# Altium footprint library Components.PcbLib: 19 footprints (part 1 of 2)
Each footprint in its own frame and in the unit in brackets; x right, y up, seen from the top. Pads: shape width x height; smd on the part's side, far side on the other; paste and mask are expansions set on the pad; w line width, h text height; cw(c..) or ccw(c..) is an arc to the next point about the centre after c.
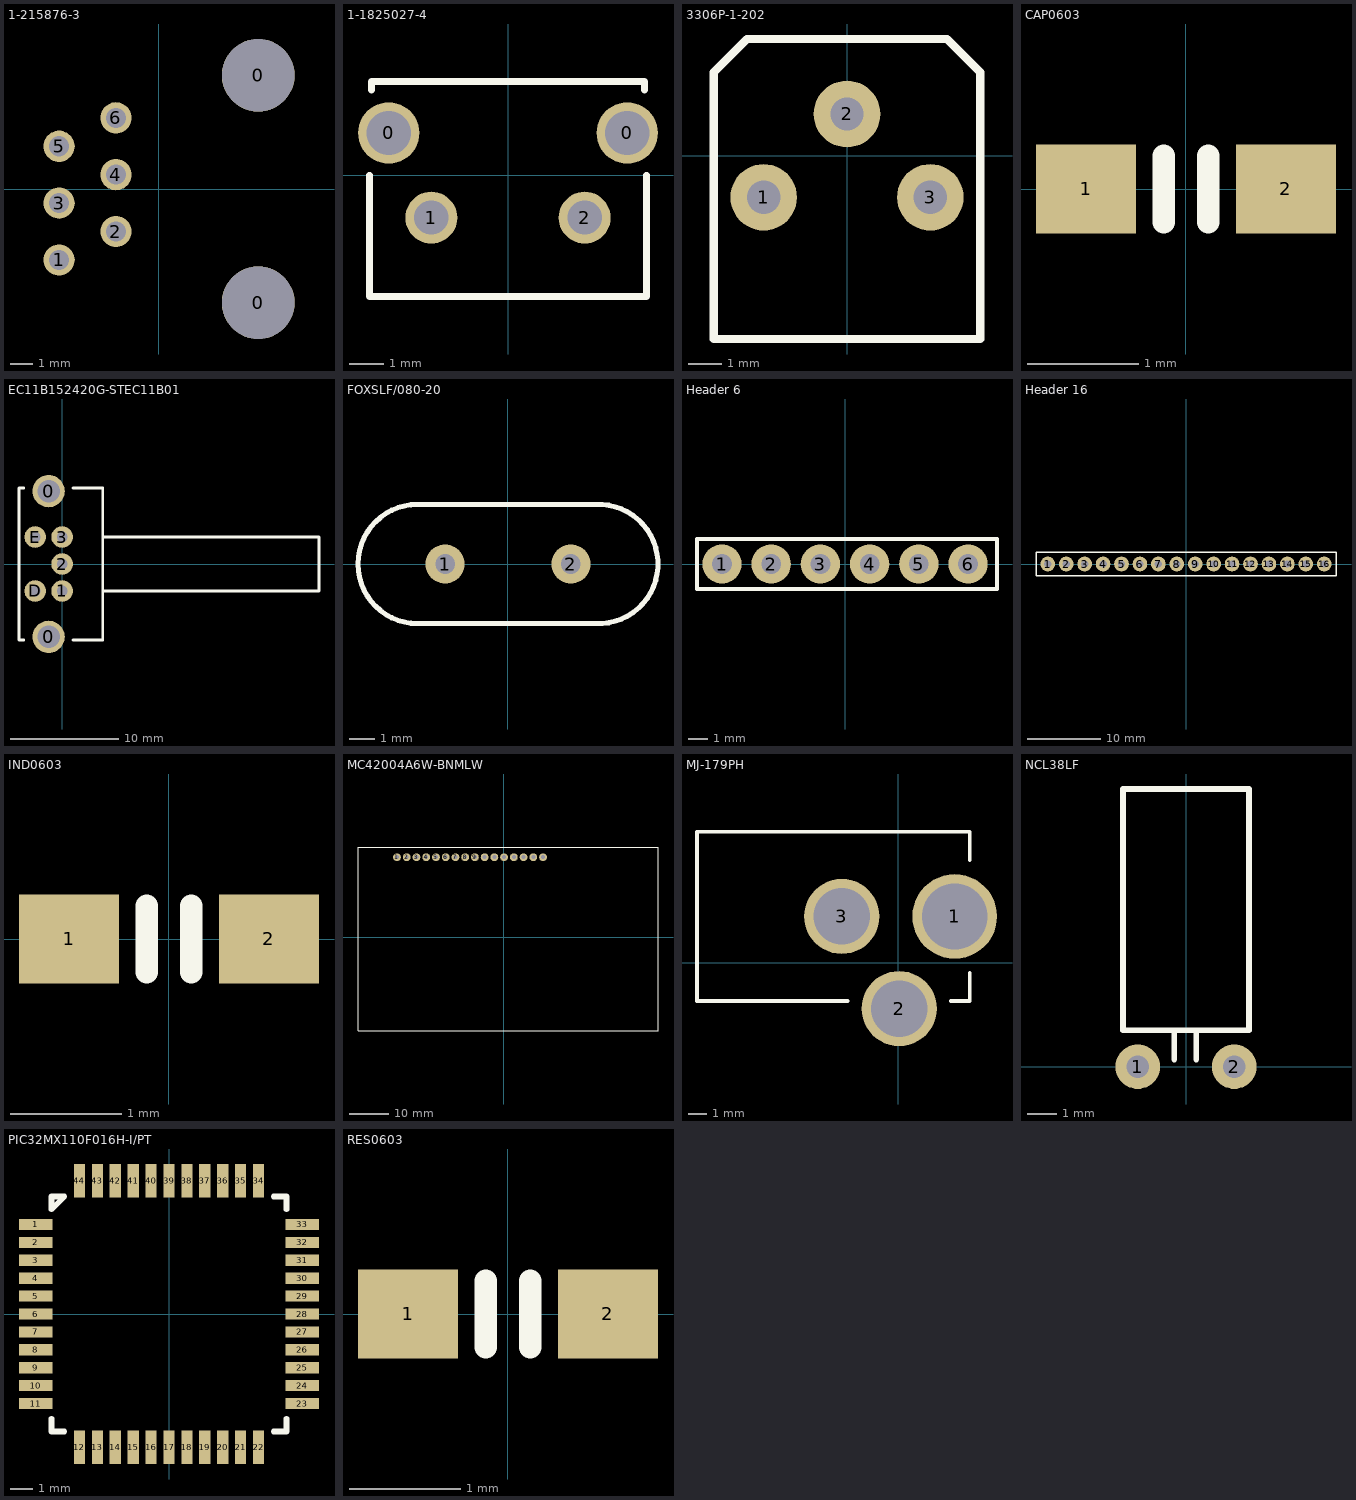
[diagram p0: the footprints below, top view; thin cyan lines are the x and y axes]

## 1-215876-3 [mm] "RJ25 Header"
pads (8):
  round 3.25 hole 3.25 unplated: 0(4.45,-5.08) 0(4.45,5.08)
  round 1.4 hole 0.9: 1(-4.45,-3.17) 2(-1.91,-1.9) 3(-4.45,-0.63) 4(-1.91,0.64) 5(-4.45,1.91) 6(-1.91,3.18)
3D body: height 11.25, standoff -3.45, extent -5.85,-6.58 12.25,6.62

## 1-1825027-4 [mm] "Button"
pads (4):
  round 1.8 hole 1.3 unplated: 0(-3.5,1.24) 0(3.5,1.24)
  round 1.524 hole 1: 1(-2.25,-1.245) 2(2.25,-1.245)
Top Overlay:
  lines w0.2: -4.064,0 -4.064,-3.556 4.064,-3.556 4.064,0 ; -4,2.5 -4,2.75 4,2.75 4,2.5
3D body: height 2.58, standoff 1.42, extent 1.389,-3 2.547,-2.8
3D body: height 2.58, standoff 1.42, extent -2.558,-3 -1.4,-2.8
3D body: height 6.58, standoff 5.42, extent 1.389,-3 2.547,-2.8
3D body: height 6.58, standoff 5.42, extent -2.558,-3 -1.4,-2.8
3D body: height 7, standoff 0, extent -3,-2.85 3,-2.6
3D body: height 5.74, standoff 2.25, extent -1.747,-3.3 1.746,-2.8
3D body: height 6.9, standoff 0.2, extent -3,-2.6 3,0.85
3D body: height 5, standoff 2, extent 3,-2.862 3.1,1.4
3D body: height 5, standoff 2, extent -3.1,-2.863 -3,1.8
3D body: height 5, standoff 0, extent -3.2,0.8 -3.1,1.8
3D body: height 5, standoff 0, extent 3.1,0.4 3.2,1.4

## 3306P-1-202 [mm] "Trimpot"
pads (3):
  round 2 hole 1: 1(-2.5,-1.25) 2(0,1.25) 3(2.5,-1.25)
Top Overlay:
  lines w0.254: -4,-5.5 -4,2.5 -3,3.5 3,3.5 4,2.5 4,-5.5 -4,-5.5
3D body: height 3.51, standoff 0, extent 2.004,-1.749 3,-0.751
3D body: height 3.51, standoff 0, extent -0.496,0.751 0.5,1.749
3D body: height 3.51, standoff 0, extent -2.996,-1.749 -2,-0.751
3D body: height 4.51, standoff 3.51, extent -3.4,-5.1 3.4,2.95
3D body: height 8.06, standoff 4.55, extent -1.984,-2.896 2,1.096
3D body: height 8.04, standoff 4.53, extent -3.373,-4.293 3.4,2.493

## CAP0603 [mm]
pads (2):
  rect 0.9x0.8 smd: 1(-0.9,0) 2(0.9,0)
Top Overlay:
  lines w0.2: -0.2,-0.3 -0.2,0.3 ; 0.2,-0.3 0.2,0.3
3D body: height 1, standoff 0, extent -0.7,-0.525 0.7,0.525
3D body: height 1, standoff 0, extent -1,-0.525 -0.7,0.525
3D body: height 1, standoff 0, extent 0.7,-0.525 1,0.525

## EC11B152420G-STEC11B01 [mm]
pads (7):
  round 3 hole 2.1 unplated: 0(-1.25,-6.75) 0(-1.25,6.75)
  round 2 hole 1: 1(0,-2.5) 2(0,0) 3(0,2.5) D(-2.5,-2.5) E(-2.5,2.5)
Top Overlay:
  lines w0.254: -3.55,-7.05 -4,-7.05 -4,7.05 -3.55,7.05 ; 1,-7.05 3.75,-7.05 3.75,7.05 1,7.05 ; 3.75,-2.5 23.8,-2.5 23.8,2.5 3.75,2.5
3D body: height 8.73, standoff 4.25, extent 12,-2.241 24,2.25
3D body: height 8.98, standoff 4, extent 4,-2.491 11,2.5
3D body: height 9.48, standoff 3.5, extent 3.5,-2.99 4,2.999
3D body: height 13.75, standoff 0, extent -4,-7 0.75,7
3D body: height 13.75, standoff 0, extent 0.75,-7 3.5,7
3D body: height 8.73, standoff 4.25, extent 11,-2.241 12,2.25
3D body: height 6.9, standoff 6.1, extent 14.5,-2.275 24.025,2.275

## FOXSLF/080-20 [mil] "8MHz XTAL"
pads (2):
  round 60 hole 30: 1(-96.46,0) 2(96.46,0)
Top Overlay:
  lines w7.87: -139.69,-91.54 136.14,-91.54 ; -139.69,91.54 136.14,91.54 ; -138.5,-91.54 cw(c-138.5,0) -138.5,91.54 ; 134.96,-91.54 ccw(c138.5,0) 134.96,91.54
3D body: height 141.73, standoff 0, extent -212,-74.65 -62.99,74.66
3D body: height 19.68, standoff 0, extent 51.87,-86.44 224.42,86.45
3D body: height 141.73, standoff 0, extent -129.92,-74.8 129.92,74.8
3D body: height 19.68, standoff 0, extent -137.45,-86.44 138.14,86.45
3D body: height 19.68, standoff 0, extent -223.72,-86.44 -51.17,86.45
3D body: height 141.73, standoff 0, extent 63.94,-74.64 212.95,74.67

## GY-BMP280 [mm]
3D body: height 8, standoff 7.7, extent 8.825,-7.6 9.625,-5.8
3D body: height 8, standoff 7.7, extent 6.325,-7.6 7.125,-5.8
3D body: height 8, standoff 7.7, extent 5.1,-7.6 5.9,-5.8
3D body: height 8, standoff 7.7, extent 3.9,-7.6 4.7,-5.8
3D body: height 7.78, standoff 7.68, extent 7.151,-3.85 7.35,-3.65
3D body: height 8, standoff 7.7, extent 5.825,-4.1 7.625,-2.7
3D body: height 9.5, standoff 8, extent 0,-11.2 13.5,0
3D body: height 8, standoff 7.7, extent 7.575,-7.6 8.375,-5.8
3D body: height 9.55, standoff 7.95, extent 0.488,-3.722 3.775,-0.428
3D body: height 9.55, standoff 7.95, extent 9.688,-3.722 12.975,-0.428

## HC-06 FC-114 [mm] "Serial to Bluetooh"
3D body: height 8, standoff 7.1, extent -6.85,-5.3 7.05,-0.05
3D body: height 8, standoff 6.5, extent -6.325,-27 1.375,-20.95
3D body: height 8, standoff 6.5, extent -6.325,-18.55 1.375,-10.85
3D body: height 8, standoff 7.1, extent -6.85,-27.5 7.05,-5.3
3D body: height 9.5, standoff 8, extent -7.65,-37.4 7.65,0
3D body: height 8, standoff 7, extent -6.862,-32.987 -4.887,-29.712
3D body: height 7, standoff 6.8, extent -6.669,-32.148 -5.075,-30.551
3D body: height 7.1, standoff 7.05, extent -6.612,-5.3 6.813,-0.537

## Header 6 [mm] "Header 6"
pads (6):
  round 2 hole 1: 1(-6.25,0) 2(-3.75,0) 3(-1.25,0) 4(1.25,0) 5(3.75,0) 6(6.25,0)
Top Overlay:
  lines w0.2: -7.52,-1.27 -7.52,1.27 7.72,1.27 7.72,-1.27 -7.52,-1.27
3D body: height 7.48, standoff 2.92, extent -7.75,-1.5 8,1.5
3D body: height 2.92, standoff 0, extent -6.448,-0.199 -6.05,0.2
3D body: height 2.92, standoff 0, extent -3.948,-0.199 -3.55,0.2
3D body: height 2.92, standoff 0, extent -1.448,-0.199 -1.05,0.2
3D body: height 2.92, standoff 0, extent 1.052,-0.199 1.45,0.2
3D body: height 7.5, standoff 0, extent 3.056,-0.698 4.45,0.699
3D body: height 2.92, standoff 0, extent 6.052,-0.199 6.45,0.2

## Header 16 [mm] "Header 16"
pads (16):
  round 2 hole 1: 1(-18.75,0) 2(-16.25,0) 3(-13.75,0) 4(-11.25,0) 5(-8.75,0) 6(-6.25,0) 7(-3.75,0) 8(-1.25,0) 9(1.25,0) 10(3.75,0) 11(6.25,0) 12(8.75,0) 13(11.25,0) 14(13.75,0) 15(16.25,0) 16(18.75,0)
Top Overlay:
  lines w0.2: -20.35,-1.62 -20.35,1.6 -20.33,1.62 20.35,1.62 20.35,-1.62 -20.35,-1.62
3D body: height 2.92, standoff 0, extent 18.552,-0.199 18.95,0.2
3D body: height 2.92, standoff 0, extent 16.052,-0.199 16.45,0.2
3D body: height 2.92, standoff 0, extent 13.552,-0.199 13.95,0.2
3D body: height 2.92, standoff 0, extent 11.052,-0.199 11.45,0.2
3D body: height 2.92, standoff 0, extent 8.552,-0.199 8.95,0.2
3D body: height 2.92, standoff 0, extent 6.052,-0.199 6.45,0.2
3D body: height 2.92, standoff 0, extent 3.552,-0.199 3.95,0.2
3D body: height 2.92, standoff 0, extent 1.052,-0.199 1.45,0.2
3D body: height 2.92, standoff 0, extent -1.448,-0.199 -1.05,0.2
3D body: height 2.92, standoff 0, extent -6.448,-0.199 -6.05,0.2
3D body: height 2.92, standoff 0, extent -3.948,-0.199 -3.55,0.2
3D body: height 2.92, standoff 0, extent -8.948,-0.199 -8.55,0.2
3D body: height 2.92, standoff 0, extent -11.448,-0.199 -11.05,0.2
3D body: height 2.92, standoff 0, extent -13.948,-0.199 -13.55,0.2
3D body: height 2.92, standoff 0, extent -16.448,-0.199 -16.05,0.2
3D body: height 2.92, standoff 0, extent -18.948,-0.2 -18.55,0.2
3D body: height 7.48, standoff 2.92, extent -20.2,-1.5 20.2,1.5

## IND0603 [mm]
pads (2):
  rect 0.9x0.8 smd: 1(-0.9,0) 2(0.9,0)
Top Overlay:
  lines w0.2: -0.2,-0.3 -0.2,0.3 ; 0.2,-0.3 0.2,0.3
3D body: height 1, standoff 0, extent 0.7,-0.525 1,0.525
3D body: height 1, standoff 0, extent -1,-0.525 -0.7,0.525
3D body: height 1, standoff 0, extent -0.7,-0.525 0.7,0.525

## MC42004A6W-BNMLW [mm] "LCD"
pads (16):
  round 2 hole 1: 1(-27.35,20.6) 2(-24.85,20.6) 3(-22.35,20.6) 4(-19.85,20.6) 5(-17.35,20.6) 6(-14.85,20.6) 7(-12.35,20.6) 8(-9.85,20.6) 9(-7.35,20.6) 10(-4.85,20.6) 11(-2.35,20.6) 12(0.15,20.6) 13(2.65,20.6) 14(5.15,20.6) 15(7.65,20.6) 16(10.15,20.6)
Top Overlay:
  lines w0.254: -37.35,-23.9 -37.35,23.1 39.65,23.1 39.65,-23.9 -37.35,-23.9
3D body: height 14.35, standoff 9.28, extent -28.75,-11.2 31.15,10.6
3D body: height 11.28, standoff 9.28, extent -37.55,-11.2 39.85,10.6
3D body: height 9.28, standoff 7.8, extent -37.35,-23.7 39.65,22.9
3D body: height 14.28, standoff 9.28, extent -37.45,-16.6 39.55,15.9

## MJ-179PH [mm] "Powerjack"
pads (3):
  round 4.5 hole 3.5: 1(3,2.45)
  round 4 hole 3: 2(0.05,-2.45) 3(-3,2.45)
Top Overlay:
  lines w0.2: -2.7,-2.05 -10.7,-2.05 -10.7,6.95 3.8,6.95 3.8,5.45 ; 2.8,-2.05 3.8,-2.05 3.8,-0.55
3D body: height 9.97, standoff 3, extent -10.7,-1.038 -10.6,5.948
3D body: height 6.5, standoff 0, extent -7.2,-1.95 3.7,6.85
3D body: height 11, standoff 0, extent -10.6,-1.95 -7.2,6.85
3D body: height 10.87, standoff 2.1, extent -7.3,-1.95 3.7,6.833

## NCL38LF [mil] "32kHz XTAL"
pads (2):
  round 60 hole 30: 1(-64.96,0) 2(64.96,0)
Top Overlay:
  lines w7.87: -15.75,9.84 -15.75,49.21 ; 13.78,9.84 13.78,49.21 ; -84.65,49.21 -84.65,374.02 84.65,374.02 84.65,49.21 -84.65,49.21
3D body: height 117.99, standoff -7.75, extent -62.5,48.23 62.99,375

## PIC32MX110F016H-I/PT [mm] "MCU"
pads (44):
  rect 1.5x0.5 smd: 1(-5.95,4) 2(-5.95,3.2) 3(-5.95,2.4) 4(-5.95,1.6) 5(-5.95,0.8) 6(-5.95,0) 7(-5.95,-0.8) 8(-5.95,-1.6) 9(-5.95,-2.4) 10(-5.95,-3.2) 11(-5.95,-4) 23(5.95,-4) 24(5.95,-3.2) 25(5.95,-2.4) 26(5.95,-1.6) 27(5.95,-0.8) 28(5.95,0) 29(5.95,0.8) 30(5.95,1.6) 31(5.95,2.4) 32(5.95,3.2) 33(5.95,4)
  rect 0.5x1.5 smd: 12(-4,-5.95) 13(-3.2,-5.95) 14(-2.4,-5.95) 15(-1.6,-5.95) 16(-0.8,-5.95) 17(0,-5.95) 18(0.8,-5.95) 19(1.6,-5.95) 20(2.4,-5.95) 21(3.2,-5.95) 22(4,-5.95) 34(4,5.95) 35(3.2,5.95) 36(2.4,5.95) 37(1.6,5.95) 38(0.8,5.95) 39(0,5.95) 40(-0.8,5.95) 41(-1.6,5.95) 42(-2.4,5.95) 43(-3.2,5.95) 44(-4,5.95)
Top Overlay:
  lines w0.254: -5.25,-4.675 -5.25,-5.25 -4.675,-5.25 ; 4.675,-5.25 5.25,-5.25 5.25,-4.675 ; 4.675,5.25 5.25,5.25 5.25,4.675 ; -5.25,4.675 -5.25,5.25 -4.675,5.25 -5.25,4.675
3D body: height 1, standoff 0, extent -5.05,-5.05 5.05,5.05
3D body: height 1.1, standoff 0.9, extent -4.397,3.601 -3.6,4.399

## RES0603 [mm]
pads (2):
  rect 0.9x0.8 smd: 1(-0.9,0) 2(0.9,0)
Top Overlay:
  lines w0.2: -0.2,-0.3 -0.2,0.3 ; 0.2,-0.3 0.2,0.3
3D body: height 1, standoff 0, extent 0.7,-0.525 1,0.525
3D body: height 1, standoff 0, extent -1,-0.525 -0.7,0.525
3D body: height 1, standoff 0, extent -0.7,-0.525 0.7,0.525